# Altium footprint library Connector_IDC.PcbLib: 182 footprints (part 9 of 12)
Each footprint in its own frame and in the unit in brackets; x right, y up, seen from the top. Pads: shape width x height; smd on the part's side, far side on the other; paste and mask are expansions set on the pad; w line width, h text height; cw(c..) or ccw(c..) is an arc to the next point about the centre after c.
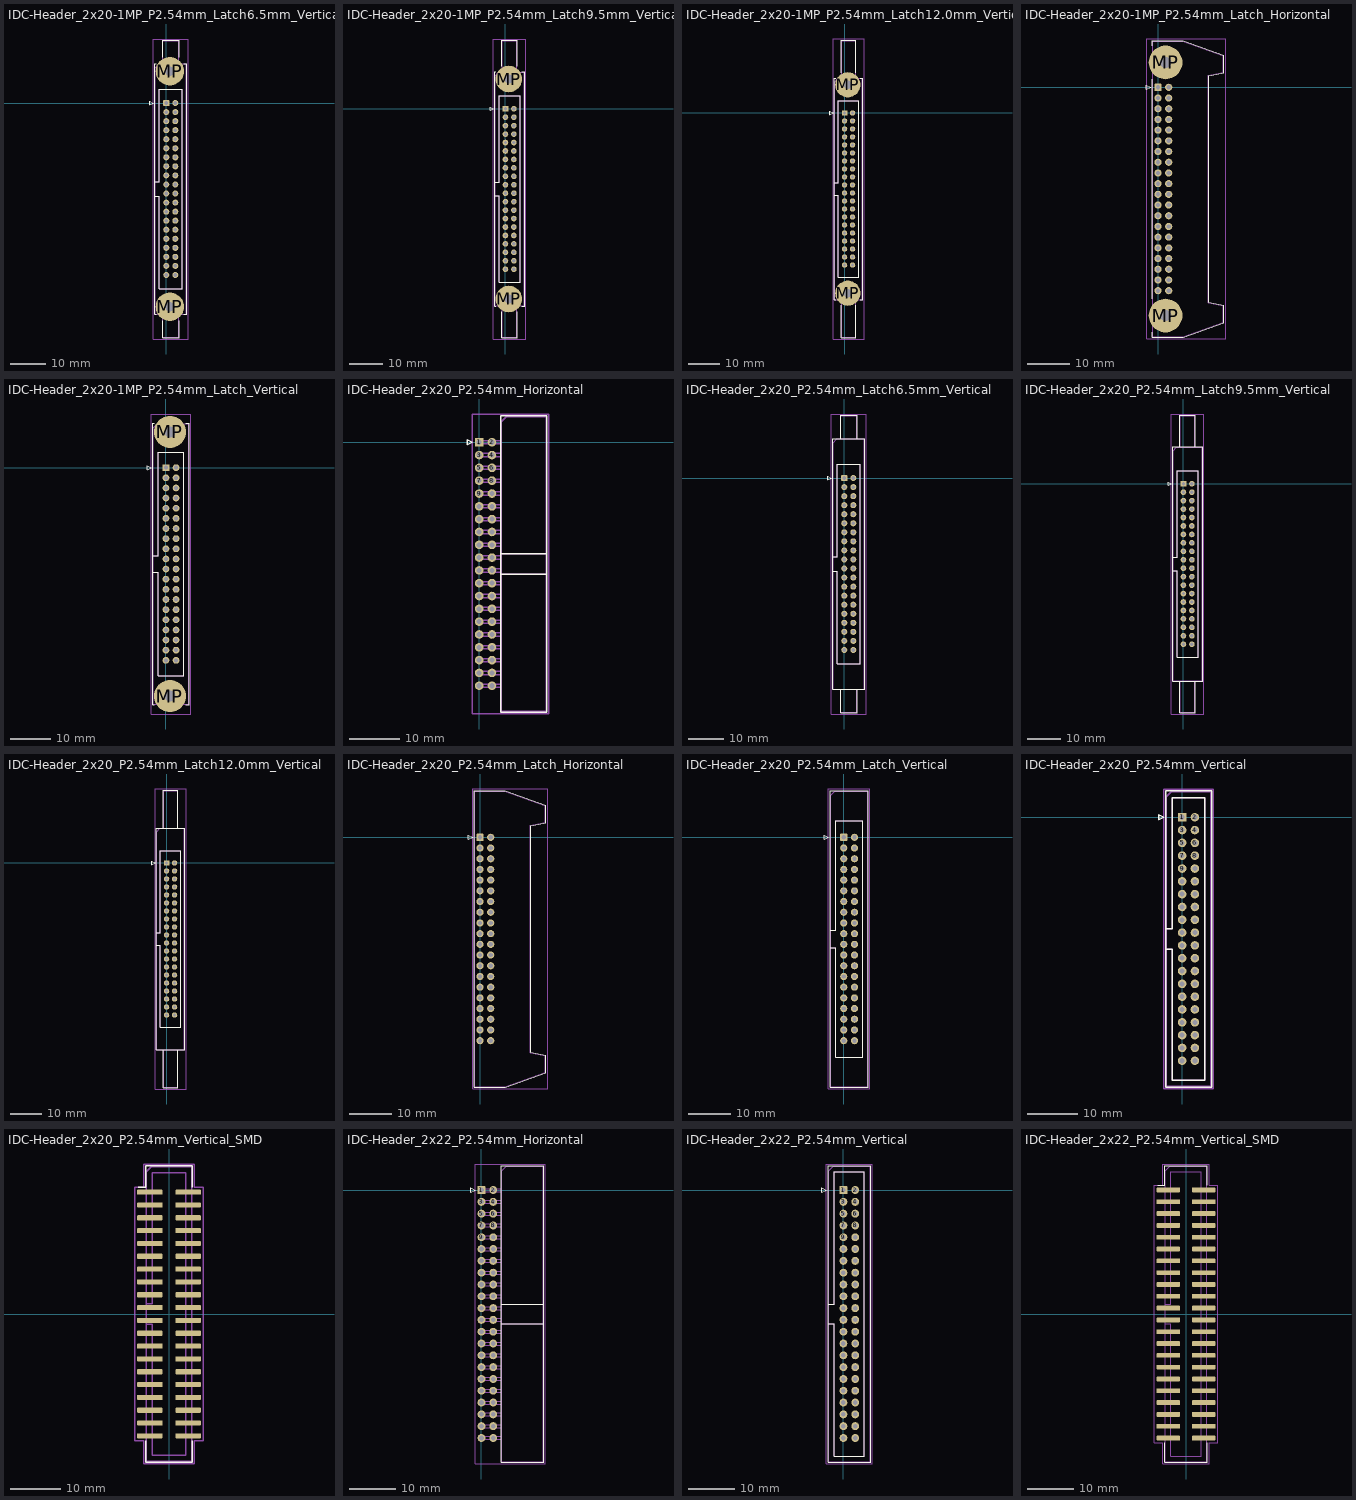
[diagram p8: the footprints below, top view; thin cyan lines are the x and y axes]

## IDC-Header_2x20-1MP_P2.54mm_Latch6.5mm_Vertical [mm]
pads (42):
  rrect15% 1.7x1.7 hole 1: 1(0,0)
  round 1.7 hole 1: 2(2.54,0) 3(0,-2.54) 4(2.54,-2.54) 5(0,-5.08) 6(2.54,-5.08) 7(0,-7.62) 8(2.54,-7.62) 9(0,-10.16) 10(2.54,-10.16) 11(0,-12.7) 12(2.54,-12.7) 13(0,-15.24) 14(2.54,-15.24) 15(0,-17.78) 16(2.54,-17.78) 17(0,-20.32) 18(2.54,-20.32) 19(0,-22.86) 20(2.54,-22.86) 21(0,-25.4) 22(2.54,-25.4) 23(0,-27.94) 24(2.54,-27.94) 25(0,-30.48) 26(2.54,-30.48) 27(0,-33.02) 28(2.54,-33.02) 29(0,-35.56) 30(2.54,-35.56) 31(0,-38.1) 32(2.54,-38.1) 33(0,-40.64) 34(2.54,-40.64) 35(0,-43.18) 36(2.54,-43.18) 37(0,-45.72) 38(2.54,-45.72) 39(0,-48.26) 40(2.54,-48.26)
  round 8 hole 2.69: MP(1.02,-57.2) MP(1.02,8.94)
F.SilkS:
  lines w0.254: -3.24,-26.18 -1.93,-26.18 -1.93,-52.18 4.47,-52.18 4.47,3.92 -1.93,3.92 -1.93,-22.08 -3.24,-22.08 ; -2.87,-59.34 -3.24,-59.34 -3.24,11.08 -2.87,11.08 ; -1.04,-61.09 -1.04,-65.84 3.58,-65.84 3.58,-61.09 ; -1.04,12.83 -1.04,17.58 3.58,17.58 3.58,12.83 ; 4.91,-59.34 5.78,-59.34 5.78,11.08 4.91,11.08 ; -4.63,-0.5 -3.63,0 -4.63,0.5 -4.63,-0.5
Top Assembly:
  lines w0.254: -3.13,-26.18 -1.93,-26.18 -1.93,-52.18 4.47,-52.18 4.47,3.92 -1.93,3.92 -1.93,-22.08 -3.13,-22.08 ; -0.93,-59.23 -0.93,-65.73 3.47,-65.73 3.47,-59.23 ; -0.93,10.97 -0.93,17.47 3.47,17.47 3.47,10.97 ; -3.13,-59.23 5.67,-59.23 5.67,10.97 -2.13,10.97 -3.13,9.97 -3.13,-59.23
  text "'.Designator'" at 2.11,-28.177 h1
Top Courtyard:
  lines w0.254: -3.63,-66.23 6.17,-66.23 6.17,17.97 -3.63,17.97 -3.63,-66.23
Top Designator:
  text ".Designator" at -6.848,-24.638 h1.52

## IDC-Header_2x20-1MP_P2.54mm_Latch9.5mm_Vertical [mm]
pads (42):
  rrect15% 1.7x1.7 hole 1: 1(0,0)
  round 1.7 hole 1: 2(2.54,0) 3(0,-2.54) 4(2.54,-2.54) 5(0,-5.08) 6(2.54,-5.08) 7(0,-7.62) 8(2.54,-7.62) 9(0,-10.16) 10(2.54,-10.16) 11(0,-12.7) 12(2.54,-12.7) 13(0,-15.24) 14(2.54,-15.24) 15(0,-17.78) 16(2.54,-17.78) 17(0,-20.32) 18(2.54,-20.32) 19(0,-22.86) 20(2.54,-22.86) 21(0,-25.4) 22(2.54,-25.4) 23(0,-27.94) 24(2.54,-27.94) 25(0,-30.48) 26(2.54,-30.48) 27(0,-33.02) 28(2.54,-33.02) 29(0,-35.56) 30(2.54,-35.56) 31(0,-38.1) 32(2.54,-38.1) 33(0,-40.64) 34(2.54,-40.64) 35(0,-43.18) 36(2.54,-43.18) 37(0,-45.72) 38(2.54,-45.72) 39(0,-48.26) 40(2.54,-48.26)
  round 8 hole 2.69: MP(1.02,-57.2) MP(1.02,8.94)
F.SilkS:
  lines w0.254: -3.24,-26.18 -1.93,-26.18 -1.93,-52.18 4.47,-52.18 4.47,3.92 -1.93,3.92 -1.93,-22.08 -3.24,-22.08 ; -2.87,-59.34 -3.24,-59.34 -3.24,11.08 -2.87,11.08 ; -1.04,-61.09 -1.04,-68.84 3.58,-68.84 3.58,-61.09 ; -1.04,12.83 -1.04,20.58 3.58,20.58 3.58,12.83 ; 4.91,-59.34 5.78,-59.34 5.78,11.08 4.91,11.08 ; -4.63,-0.5 -3.63,0 -4.63,0.5 -4.63,-0.5
Top Assembly:
  lines w0.254: -3.13,-26.18 -1.93,-26.18 -1.93,-52.18 4.47,-52.18 4.47,3.92 -1.93,3.92 -1.93,-22.08 -3.13,-22.08 ; -0.93,-59.23 -0.93,-68.73 3.47,-68.73 3.47,-59.23 ; -0.93,10.97 -0.93,20.47 3.47,20.47 3.47,10.97 ; -3.13,-59.23 5.67,-59.23 5.67,10.97 -2.13,10.97 -3.13,9.97 -3.13,-59.23
  text "'.Designator'" at 2.11,-28.177 h1
Top Courtyard:
  lines w0.254: -3.63,-69.23 6.17,-69.23 6.17,20.97 -3.63,20.97 -3.63,-69.23
Top Designator:
  text ".Designator" at -6.848,-24.638 h1.52

## IDC-Header_2x20-1MP_P2.54mm_Latch12.0mm_Vertical [mm]
pads (42):
  rrect15% 1.7x1.7 hole 1: 1(0,0)
  round 1.7 hole 1: 2(2.54,0) 3(0,-2.54) 4(2.54,-2.54) 5(0,-5.08) 6(2.54,-5.08) 7(0,-7.62) 8(2.54,-7.62) 9(0,-10.16) 10(2.54,-10.16) 11(0,-12.7) 12(2.54,-12.7) 13(0,-15.24) 14(2.54,-15.24) 15(0,-17.78) 16(2.54,-17.78) 17(0,-20.32) 18(2.54,-20.32) 19(0,-22.86) 20(2.54,-22.86) 21(0,-25.4) 22(2.54,-25.4) 23(0,-27.94) 24(2.54,-27.94) 25(0,-30.48) 26(2.54,-30.48) 27(0,-33.02) 28(2.54,-33.02) 29(0,-35.56) 30(2.54,-35.56) 31(0,-38.1) 32(2.54,-38.1) 33(0,-40.64) 34(2.54,-40.64) 35(0,-43.18) 36(2.54,-43.18) 37(0,-45.72) 38(2.54,-45.72) 39(0,-48.26) 40(2.54,-48.26)
  round 8 hole 2.69: MP(1.02,-57.2) MP(1.02,8.94)
F.SilkS:
  lines w0.254: -3.24,-26.18 -1.93,-26.18 -1.93,-52.18 4.47,-52.18 4.47,3.92 -1.93,3.92 -1.93,-22.08 -3.24,-22.08 ; -2.87,-59.34 -3.24,-59.34 -3.24,11.08 -2.87,11.08 ; -1.04,-61.09 -1.04,-71.34 3.58,-71.34 3.58,-61.09 ; -1.04,12.83 -1.04,23.08 3.58,23.08 3.58,12.83 ; 4.91,-59.34 5.78,-59.34 5.78,11.08 4.91,11.08 ; -4.63,-0.5 -3.63,0 -4.63,0.5 -4.63,-0.5
Top Assembly:
  lines w0.254: -3.13,-26.18 -1.93,-26.18 -1.93,-52.18 4.47,-52.18 4.47,3.92 -1.93,3.92 -1.93,-22.08 -3.13,-22.08 ; -0.93,-59.23 -0.93,-71.23 3.47,-71.23 3.47,-59.23 ; -0.93,10.97 -0.93,22.97 3.47,22.97 3.47,10.97 ; -3.13,-59.23 5.67,-59.23 5.67,10.97 -2.13,10.97 -3.13,9.97 -3.13,-59.23
  text "'.Designator'" at 2.11,-28.177 h1
Top Courtyard:
  lines w0.254: -3.63,-71.73 6.17,-71.73 6.17,23.47 -3.63,23.47 -3.63,-71.73
Top Designator:
  text ".Designator" at -6.848,-24.638 h1.52

## IDC-Header_2x20-1MP_P2.54mm_Latch_Horizontal [mm]
pads (42):
  rrect15% 1.7x1.7 hole 1: 1(0,0)
  round 1.7 hole 1: 2(2.54,0) 3(0,-2.54) 4(2.54,-2.54) 5(0,-5.08) 6(2.54,-5.08) 7(0,-7.62) 8(2.54,-7.62) 9(0,-10.16) 10(2.54,-10.16) 11(0,-12.7) 12(2.54,-12.7) 13(0,-15.24) 14(2.54,-15.24) 15(0,-17.78) 16(2.54,-17.78) 17(0,-20.32) 18(2.54,-20.32) 19(0,-22.86) 20(2.54,-22.86) 21(0,-25.4) 22(2.54,-25.4) 23(0,-27.94) 24(2.54,-27.94) 25(0,-30.48) 26(2.54,-30.48) 27(0,-33.02) 28(2.54,-33.02) 29(0,-35.56) 30(2.54,-35.56) 31(0,-38.1) 32(2.54,-38.1) 33(0,-40.64) 34(2.54,-40.64) 35(0,-43.18) 36(2.54,-43.18) 37(0,-45.72) 38(2.54,-45.72) 39(0,-48.26) 40(2.54,-48.26)
  round 8 hole 2.69: MP(1.8,-54.165) MP(1.8,5.905)
F.SilkS:
  lines w0.254: -1.35,-58.165 -1.35,-59.34 5.98,-59.34 15.64,-55.87 15.64,-51.68 12.08,-51.05 12.08,2.79 15.64,3.42 15.64,7.61 5.98,11.08 -1.35,11.08 -1.35,9.905 ; -1.35,-50.165 -1.35,1.905 ; -2.74,-0.5 -1.74,0 -2.74,0.5 -2.74,-0.5
Top Assembly:
  lines w0.254: -1.24,-59.23 5.87,-59.23 15.53,-55.76 15.53,-51.79 11.97,-51.16 11.97,2.9 15.53,3.53 15.53,7.5 5.87,10.97 -1.24,10.97 -1.24,-59.23
  text "'.Designator'" at 7.985,-28.177 h1
Top Courtyard:
  lines w0.254: -2.7,-59.73 16.03,-59.73 16.03,11.47 -2.7,11.47 -2.7,-59.73
Top Designator:
  text ".Designator" at -0.973,-24.638 h1.52

## IDC-Header_2x20-1MP_P2.54mm_Latch_Vertical [mm]
pads (42):
  rrect15% 1.7x1.7 hole 1: 1(0,0)
  round 1.7 hole 1: 2(2.54,0) 3(0,-2.54) 4(2.54,-2.54) 5(0,-5.08) 6(2.54,-5.08) 7(0,-7.62) 8(2.54,-7.62) 9(0,-10.16) 10(2.54,-10.16) 11(0,-12.7) 12(2.54,-12.7) 13(0,-15.24) 14(2.54,-15.24) 15(0,-17.78) 16(2.54,-17.78) 17(0,-20.32) 18(2.54,-20.32) 19(0,-22.86) 20(2.54,-22.86) 21(0,-25.4) 22(2.54,-25.4) 23(0,-27.94) 24(2.54,-27.94) 25(0,-30.48) 26(2.54,-30.48) 27(0,-33.02) 28(2.54,-33.02) 29(0,-35.56) 30(2.54,-35.56) 31(0,-38.1) 32(2.54,-38.1) 33(0,-40.64) 34(2.54,-40.64) 35(0,-43.18) 36(2.54,-43.18) 37(0,-45.72) 38(2.54,-45.72) 39(0,-48.26) 40(2.54,-48.26)
  round 8 hole 2.69: MP(1.02,-57.2) MP(1.02,8.94)
F.SilkS:
  lines w0.254: -3.24,-26.18 -1.93,-26.18 -1.93,-52.18 4.47,-52.18 4.47,3.92 -1.93,3.92 -1.93,-22.08 -3.24,-22.08 ; -2.87,-59.34 -3.24,-59.34 -3.24,11.08 -2.87,11.08 ; 4.91,-59.34 5.78,-59.34 5.78,11.08 4.91,11.08 ; -4.63,-0.5 -3.63,0 -4.63,0.5 -4.63,-0.5
Top Assembly:
  lines w0.254: -3.13,-26.18 -1.93,-26.18 -1.93,-52.18 4.47,-52.18 4.47,3.92 -1.93,3.92 -1.93,-22.08 -3.13,-22.08 ; -3.13,-59.23 5.67,-59.23 5.67,10.97 -2.13,10.97 -3.13,9.97 -3.13,-59.23
  text "'.Designator'" at 2.11,-28.177 h1
Top Courtyard:
  lines w0.254: -3.63,-61.7 6.17,-61.7 6.17,13.44 -3.63,13.44 -3.63,-61.7
Top Designator:
  text ".Designator" at -6.848,-24.638 h1.52

## IDC-Header_2x20_P2.54mm_Horizontal [mm]
pads (40):
  rrect15% 1.7x1.7 hole 1: 1(0,0)
  round 1.7 hole 1: 2(2.54,0) 3(0,-2.54) 4(2.54,-2.54) 5(0,-5.08) 6(2.54,-5.08) 7(0,-7.62) 8(2.54,-7.62) 9(0,-10.16) 10(2.54,-10.16) 11(0,-12.7) 12(2.54,-12.7) 13(0,-15.24) 14(2.54,-15.24) 15(0,-17.78) 16(2.54,-17.78) 17(0,-20.32) 18(2.54,-20.32) 19(0,-22.86) 20(2.54,-22.86) 21(0,-25.4) 22(2.54,-25.4) 23(0,-27.94) 24(2.54,-27.94) 25(0,-30.48) 26(2.54,-30.48) 27(0,-33.02) 28(2.54,-33.02) 29(0,-35.56) 30(2.54,-35.56) 31(0,-38.1) 32(2.54,-38.1) 33(0,-40.64) 34(2.54,-40.64) 35(0,-43.18) 36(2.54,-43.18) 37(0,-45.72) 38(2.54,-45.72) 39(0,-48.26) 40(2.54,-48.26)
F.SilkS:
  lines w0.254: 4.27,-26.18 13.39,-26.18 ; 4.27,-22.08 13.39,-22.08 ; -2.35,-0.5 -1.35,0 -2.35,0.5 -2.35,-0.5 ; 4.27,-53.47 13.39,-53.47 13.39,5.21 4.27,5.21 4.27,-53.47
Top Assembly:
  lines w0.254: 4.38,-48.58 -0.32,-48.58 -0.32,-47.94 4.38,-47.94 ; 4.38,-46.04 -0.32,-46.04 -0.32,-45.4 4.38,-45.4 ; 4.38,-43.5 -0.32,-43.5 -0.32,-42.86 4.38,-42.86 ; 4.38,-40.96 -0.32,-40.96 -0.32,-40.32 4.38,-40.32 ; 4.38,-38.42 -0.32,-38.42 -0.32,-37.78 4.38,-37.78 ; 4.38,-35.88 -0.32,-35.88 -0.32,-35.24 4.38,-35.24 ; 4.38,-33.34 -0.32,-33.34 -0.32,-32.7 4.38,-32.7 ; 4.38,-30.8 -0.32,-30.8 -0.32,-30.16 4.38,-30.16 ; 4.38,-28.26 -0.32,-28.26 -0.32,-27.62 4.38,-27.62 ; 4.38,-26.18 13.28,-26.18 ; 4.38,-25.72 -0.32,-25.72 -0.32,-25.08 4.38,-25.08 ; 4.38,-23.18 -0.32,-23.18 -0.32,-22.54 4.38,-22.54 ; 4.38,-22.08 13.28,-22.08 ; 4.38,-20.64 -0.32,-20.64 -0.32,-20 4.38,-20 ; 4.38,-18.1 -0.32,-18.1 -0.32,-17.46 4.38,-17.46 ; 4.38,-15.56 -0.32,-15.56 -0.32,-14.92 4.38,-14.92 ; 4.38,-13.02 -0.32,-13.02 -0.32,-12.38 4.38,-12.38 ; 4.38,-10.48 -0.32,-10.48 -0.32,-9.84 4.38,-9.84 ; 4.38,-7.94 -0.32,-7.94 -0.32,-7.3 4.38,-7.3 ; 4.38,-5.4 -0.32,-5.4 -0.32,-4.76 4.38,-4.76 ; 4.38,-2.86 -0.32,-2.86 -0.32,-2.22 4.38,-2.22 ; 4.38,-0.32 -0.32,-0.32 -0.32,0.32 4.38,0.32 ; 4.38,-53.36 13.28,-53.36 13.28,5.1 5.38,5.1 4.38,4.1 4.38,-53.36
  text "'.Designator'" at 9.67,-28.177 h1
Top Courtyard:
  lines w0.254: -1.35,-53.86 13.78,-53.86 13.78,5.6 -1.35,5.6 -1.35,-53.86
Top Designator:
  text ".Designator" at -1.903,-24.638 h1.52

## IDC-Header_2x20_P2.54mm_Latch6.5mm_Vertical [mm]
pads (40):
  rrect15% 1.7x1.7 hole 1: 1(0,0)
  round 1.7 hole 1: 2(2.54,0) 3(0,-2.54) 4(2.54,-2.54) 5(0,-5.08) 6(2.54,-5.08) 7(0,-7.62) 8(2.54,-7.62) 9(0,-10.16) 10(2.54,-10.16) 11(0,-12.7) 12(2.54,-12.7) 13(0,-15.24) 14(2.54,-15.24) 15(0,-17.78) 16(2.54,-17.78) 17(0,-20.32) 18(2.54,-20.32) 19(0,-22.86) 20(2.54,-22.86) 21(0,-25.4) 22(2.54,-25.4) 23(0,-27.94) 24(2.54,-27.94) 25(0,-30.48) 26(2.54,-30.48) 27(0,-33.02) 28(2.54,-33.02) 29(0,-35.56) 30(2.54,-35.56) 31(0,-38.1) 32(2.54,-38.1) 33(0,-40.64) 34(2.54,-40.64) 35(0,-43.18) 36(2.54,-43.18) 37(0,-45.72) 38(2.54,-45.72) 39(0,-48.26) 40(2.54,-48.26)
F.SilkS:
  lines w0.254: -3.24,-26.18 -1.93,-26.18 -1.93,-52.18 4.47,-52.18 4.47,3.92 -1.93,3.92 -1.93,-22.08 -3.24,-22.08 ; -1.04,-59.34 -1.04,-65.84 3.58,-65.84 3.58,-59.34 ; -1.04,11.08 -1.04,17.58 3.58,17.58 3.58,11.08 ; -4.63,-0.5 -3.63,0 -4.63,0.5 -4.63,-0.5 ; -3.24,-59.34 5.78,-59.34 5.78,11.08 -3.24,11.08 -3.24,-59.34
Top Assembly:
  lines w0.254: -3.13,-26.18 -1.93,-26.18 -1.93,-52.18 4.47,-52.18 4.47,3.92 -1.93,3.92 -1.93,-22.08 -3.13,-22.08 ; -0.93,-59.23 -0.93,-65.73 3.47,-65.73 3.47,-59.23 ; -0.93,10.97 -0.93,17.47 3.47,17.47 3.47,10.97 ; -3.13,-59.23 5.67,-59.23 5.67,10.97 -2.13,10.97 -3.13,9.97 -3.13,-59.23
  text "'.Designator'" at 2.11,-28.177 h1
Top Courtyard:
  lines w0.254: -3.63,-66.23 6.17,-66.23 6.17,17.97 -3.63,17.97 -3.63,-66.23
Top Designator:
  text ".Designator" at -6.848,-24.638 h1.52

## IDC-Header_2x20_P2.54mm_Latch9.5mm_Vertical [mm]
pads (40):
  rrect15% 1.7x1.7 hole 1: 1(0,0)
  round 1.7 hole 1: 2(2.54,0) 3(0,-2.54) 4(2.54,-2.54) 5(0,-5.08) 6(2.54,-5.08) 7(0,-7.62) 8(2.54,-7.62) 9(0,-10.16) 10(2.54,-10.16) 11(0,-12.7) 12(2.54,-12.7) 13(0,-15.24) 14(2.54,-15.24) 15(0,-17.78) 16(2.54,-17.78) 17(0,-20.32) 18(2.54,-20.32) 19(0,-22.86) 20(2.54,-22.86) 21(0,-25.4) 22(2.54,-25.4) 23(0,-27.94) 24(2.54,-27.94) 25(0,-30.48) 26(2.54,-30.48) 27(0,-33.02) 28(2.54,-33.02) 29(0,-35.56) 30(2.54,-35.56) 31(0,-38.1) 32(2.54,-38.1) 33(0,-40.64) 34(2.54,-40.64) 35(0,-43.18) 36(2.54,-43.18) 37(0,-45.72) 38(2.54,-45.72) 39(0,-48.26) 40(2.54,-48.26)
F.SilkS:
  lines w0.254: -3.24,-26.18 -1.93,-26.18 -1.93,-52.18 4.47,-52.18 4.47,3.92 -1.93,3.92 -1.93,-22.08 -3.24,-22.08 ; -1.04,-59.34 -1.04,-68.84 3.58,-68.84 3.58,-59.34 ; -1.04,11.08 -1.04,20.58 3.58,20.58 3.58,11.08 ; -4.63,-0.5 -3.63,0 -4.63,0.5 -4.63,-0.5 ; -3.24,-59.34 5.78,-59.34 5.78,11.08 -3.24,11.08 -3.24,-59.34
Top Assembly:
  lines w0.254: -3.13,-26.18 -1.93,-26.18 -1.93,-52.18 4.47,-52.18 4.47,3.92 -1.93,3.92 -1.93,-22.08 -3.13,-22.08 ; -0.93,-59.23 -0.93,-68.73 3.47,-68.73 3.47,-59.23 ; -0.93,10.97 -0.93,20.47 3.47,20.47 3.47,10.97 ; -3.13,-59.23 5.67,-59.23 5.67,10.97 -2.13,10.97 -3.13,9.97 -3.13,-59.23
  text "'.Designator'" at 2.11,-28.177 h1
Top Courtyard:
  lines w0.254: -3.63,-69.23 6.17,-69.23 6.17,20.97 -3.63,20.97 -3.63,-69.23
Top Designator:
  text ".Designator" at -6.848,-24.638 h1.52

## IDC-Header_2x20_P2.54mm_Latch12.0mm_Vertical [mm]
pads (40):
  rrect15% 1.7x1.7 hole 1: 1(0,0)
  round 1.7 hole 1: 2(2.54,0) 3(0,-2.54) 4(2.54,-2.54) 5(0,-5.08) 6(2.54,-5.08) 7(0,-7.62) 8(2.54,-7.62) 9(0,-10.16) 10(2.54,-10.16) 11(0,-12.7) 12(2.54,-12.7) 13(0,-15.24) 14(2.54,-15.24) 15(0,-17.78) 16(2.54,-17.78) 17(0,-20.32) 18(2.54,-20.32) 19(0,-22.86) 20(2.54,-22.86) 21(0,-25.4) 22(2.54,-25.4) 23(0,-27.94) 24(2.54,-27.94) 25(0,-30.48) 26(2.54,-30.48) 27(0,-33.02) 28(2.54,-33.02) 29(0,-35.56) 30(2.54,-35.56) 31(0,-38.1) 32(2.54,-38.1) 33(0,-40.64) 34(2.54,-40.64) 35(0,-43.18) 36(2.54,-43.18) 37(0,-45.72) 38(2.54,-45.72) 39(0,-48.26) 40(2.54,-48.26)
F.SilkS:
  lines w0.254: -3.24,-26.18 -1.93,-26.18 -1.93,-52.18 4.47,-52.18 4.47,3.92 -1.93,3.92 -1.93,-22.08 -3.24,-22.08 ; -1.04,-59.34 -1.04,-71.34 3.58,-71.34 3.58,-59.34 ; -1.04,11.08 -1.04,23.08 3.58,23.08 3.58,11.08 ; -4.63,-0.5 -3.63,0 -4.63,0.5 -4.63,-0.5 ; -3.24,-59.34 5.78,-59.34 5.78,11.08 -3.24,11.08 -3.24,-59.34
Top Assembly:
  lines w0.254: -3.13,-26.18 -1.93,-26.18 -1.93,-52.18 4.47,-52.18 4.47,3.92 -1.93,3.92 -1.93,-22.08 -3.13,-22.08 ; -0.93,-59.23 -0.93,-71.23 3.47,-71.23 3.47,-59.23 ; -0.93,10.97 -0.93,22.97 3.47,22.97 3.47,10.97 ; -3.13,-59.23 5.67,-59.23 5.67,10.97 -2.13,10.97 -3.13,9.97 -3.13,-59.23
  text "'.Designator'" at 2.11,-28.177 h1
Top Courtyard:
  lines w0.254: -3.63,-71.73 6.17,-71.73 6.17,23.47 -3.63,23.47 -3.63,-71.73
Top Designator:
  text ".Designator" at -6.848,-24.638 h1.52

## IDC-Header_2x20_P2.54mm_Latch_Horizontal [mm]
pads (40):
  rrect15% 1.7x1.7 hole 1: 1(0,0)
  round 1.7 hole 1: 2(2.54,0) 3(0,-2.54) 4(2.54,-2.54) 5(0,-5.08) 6(2.54,-5.08) 7(0,-7.62) 8(2.54,-7.62) 9(0,-10.16) 10(2.54,-10.16) 11(0,-12.7) 12(2.54,-12.7) 13(0,-15.24) 14(2.54,-15.24) 15(0,-17.78) 16(2.54,-17.78) 17(0,-20.32) 18(2.54,-20.32) 19(0,-22.86) 20(2.54,-22.86) 21(0,-25.4) 22(2.54,-25.4) 23(0,-27.94) 24(2.54,-27.94) 25(0,-30.48) 26(2.54,-30.48) 27(0,-33.02) 28(2.54,-33.02) 29(0,-35.56) 30(2.54,-35.56) 31(0,-38.1) 32(2.54,-38.1) 33(0,-40.64) 34(2.54,-40.64) 35(0,-43.18) 36(2.54,-43.18) 37(0,-45.72) 38(2.54,-45.72) 39(0,-48.26) 40(2.54,-48.26)
F.SilkS:
  lines w0.254: -2.74,-0.5 -1.74,0 -2.74,0.5 -2.74,-0.5 ; -1.35,-59.34 5.98,-59.34 15.64,-55.87 15.64,-51.68 12.08,-51.05 12.08,2.79 15.64,3.42 15.64,7.61 5.98,11.08 -1.35,11.08 -1.35,-59.34
Top Assembly:
  lines w0.254: -1.24,-59.23 5.87,-59.23 15.53,-55.76 15.53,-51.79 11.97,-51.16 11.97,2.9 15.53,3.53 15.53,7.5 5.87,10.97 -1.24,10.97 -1.24,-59.23
  text "'.Designator'" at 7.985,-28.177 h1
Top Courtyard:
  lines w0.254: -1.74,-59.73 16.03,-59.73 16.03,11.47 -1.74,11.47 -1.74,-59.73
Top Designator:
  text ".Designator" at -0.973,-24.638 h1.52

## IDC-Header_2x20_P2.54mm_Latch_Vertical [mm]
pads (40):
  rrect15% 1.7x1.7 hole 1: 1(0,0)
  round 1.7 hole 1: 2(2.54,0) 3(0,-2.54) 4(2.54,-2.54) 5(0,-5.08) 6(2.54,-5.08) 7(0,-7.62) 8(2.54,-7.62) 9(0,-10.16) 10(2.54,-10.16) 11(0,-12.7) 12(2.54,-12.7) 13(0,-15.24) 14(2.54,-15.24) 15(0,-17.78) 16(2.54,-17.78) 17(0,-20.32) 18(2.54,-20.32) 19(0,-22.86) 20(2.54,-22.86) 21(0,-25.4) 22(2.54,-25.4) 23(0,-27.94) 24(2.54,-27.94) 25(0,-30.48) 26(2.54,-30.48) 27(0,-33.02) 28(2.54,-33.02) 29(0,-35.56) 30(2.54,-35.56) 31(0,-38.1) 32(2.54,-38.1) 33(0,-40.64) 34(2.54,-40.64) 35(0,-43.18) 36(2.54,-43.18) 37(0,-45.72) 38(2.54,-45.72) 39(0,-48.26) 40(2.54,-48.26)
F.SilkS:
  lines w0.254: -3.24,-26.18 -1.93,-26.18 -1.93,-52.18 4.47,-52.18 4.47,3.92 -1.93,3.92 -1.93,-22.08 -3.24,-22.08 ; -4.63,-0.5 -3.63,0 -4.63,0.5 -4.63,-0.5 ; -3.24,-59.34 5.78,-59.34 5.78,11.08 -3.24,11.08 -3.24,-59.34
Top Assembly:
  lines w0.254: -3.13,-26.18 -1.93,-26.18 -1.93,-52.18 4.47,-52.18 4.47,3.92 -1.93,3.92 -1.93,-22.08 -3.13,-22.08 ; -3.13,-59.23 5.67,-59.23 5.67,10.97 -2.13,10.97 -3.13,9.97 -3.13,-59.23
  text "'.Designator'" at 2.11,-28.177 h1
Top Courtyard:
  lines w0.254: -3.63,-59.73 6.17,-59.73 6.17,11.47 -3.63,11.47 -3.63,-59.73
Top Designator:
  text ".Designator" at -6.848,-24.638 h1.52

## IDC-Header_2x20_P2.54mm_Vertical [mm]
pads (40):
  rrect15% 1.7x1.7 hole 1: 1(0,0)
  round 1.7 hole 1: 2(2.54,0) 3(0,-2.54) 4(2.54,-2.54) 5(0,-5.08) 6(2.54,-5.08) 7(0,-7.62) 8(2.54,-7.62) 9(0,-10.16) 10(2.54,-10.16) 11(0,-12.7) 12(2.54,-12.7) 13(0,-15.24) 14(2.54,-15.24) 15(0,-17.78) 16(2.54,-17.78) 17(0,-20.32) 18(2.54,-20.32) 19(0,-22.86) 20(2.54,-22.86) 21(0,-25.4) 22(2.54,-25.4) 23(0,-27.94) 24(2.54,-27.94) 25(0,-30.48) 26(2.54,-30.48) 27(0,-33.02) 28(2.54,-33.02) 29(0,-35.56) 30(2.54,-35.56) 31(0,-38.1) 32(2.54,-38.1) 33(0,-40.64) 34(2.54,-40.64) 35(0,-43.18) 36(2.54,-43.18) 37(0,-45.72) 38(2.54,-45.72) 39(0,-48.26) 40(2.54,-48.26)
F.SilkS:
  lines w0.254: -3.29,-26.18 -1.98,-26.18 -1.98,-52.17 4.52,-52.17 4.52,3.91 -1.98,3.91 -1.98,-22.08 -3.29,-22.08 ; -4.68,-0.5 -3.68,0 -4.68,0.5 -4.68,-0.5 ; -3.29,-53.47 5.83,-53.47 5.83,5.21 -3.29,5.21 -3.29,-53.47
Top Assembly:
  lines w0.254: -3.18,-26.18 -1.98,-26.18 -1.98,-52.17 4.52,-52.17 4.52,3.91 -1.98,3.91 -1.98,-22.08 -3.18,-22.08 ; -3.18,-53.36 5.72,-53.36 5.72,5.1 -2.18,5.1 -3.18,4.1 -3.18,-53.36
  text "'.Designator'" at 2.11,-28.177 h1
Top Courtyard:
  lines w0.254: -3.68,-53.86 6.22,-53.86 6.22,5.6 -3.68,5.6 -3.68,-53.86
Top Designator:
  text ".Designator" at -6.848,-24.638 h1.52

## IDC-Header_2x20_P2.54mm_Vertical_SMD [mm]
pads (40):
  rrect25% 5x1.02 smd: 1(-3.8,24.13) 2(3.8,24.13) 3(-3.8,21.59) 4(3.8,21.59) 5(-3.8,19.05) 6(3.8,19.05) 7(-3.8,16.51) 8(3.8,16.51) 9(-3.8,13.97) 10(3.8,13.97) 11(-3.8,11.43) 12(3.8,11.43) 13(-3.8,8.89) 14(3.8,8.89) 15(-3.8,6.35) 16(3.8,6.35) 17(-3.8,3.81) 18(3.8,3.81) 19(-3.8,1.27) 20(3.8,1.27) 21(-3.8,-1.27) 22(3.8,-1.27) 23(-3.8,-3.81) 24(3.8,-3.81) 25(-3.8,-6.35) 26(3.8,-6.35) 27(-3.8,-8.89) 28(3.8,-8.89) 29(-3.8,-11.43) 30(3.8,-11.43) 31(-3.8,-13.97) 32(3.8,-13.97) 33(-3.8,-16.51) 34(3.8,-16.51) 35(-3.8,-19.05) 36(3.8,-19.05) 37(-3.8,-21.59) 38(3.8,-21.59) 39(-3.8,-24.13) 40(3.8,-24.13)
F.SilkS:
  lines w0.254: -6.085,25.14 -4.585,25.14 -4.585,29.32 4.585,29.32 4.585,25.14 ; -4.585,-25.14 -4.585,-29.32 4.585,-29.32 4.585,-25.14
Top Assembly:
  lines w0.254: -4.475,-2.05 -3.275,-2.05 -3.275,-28.01 3.275,-28.01 3.275,28.01 -3.275,28.01 -3.275,2.05 -4.475,2.05 ; -4.475,-29.21 4.475,-29.21 4.475,29.21 -3.475,29.21 -4.475,28.21 -4.475,-29.21
  text "'.Designator'" at 0.84,-4.047 h1
Top Courtyard:
  lines w0.254: -6.8,-25.14 -4.98,-25.14 -4.98,-29.71 4.98,-29.71 4.98,-25.14 6.8,-25.14 6.8,25.14 4.98,25.14 4.98,29.71 -4.98,29.71 -4.98,25.14 -6.8,25.14 -6.8,-25.14
Top Designator:
  text ".Designator" at -7.618,-0.508 h1.52

## IDC-Header_2x22_P2.54mm_Horizontal [mm]
pads (44):
  rrect15% 1.7x1.7 hole 1: 1(0,0)
  round 1.7 hole 1: 2(2.54,0) 3(0,-2.54) 4(2.54,-2.54) 5(0,-5.08) 6(2.54,-5.08) 7(0,-7.62) 8(2.54,-7.62) 9(0,-10.16) 10(2.54,-10.16) 11(0,-12.7) 12(2.54,-12.7) 13(0,-15.24) 14(2.54,-15.24) 15(0,-17.78) 16(2.54,-17.78) 17(0,-20.32) 18(2.54,-20.32) 19(0,-22.86) 20(2.54,-22.86) 21(0,-25.4) 22(2.54,-25.4) 23(0,-27.94) 24(2.54,-27.94) 25(0,-30.48) 26(2.54,-30.48) 27(0,-33.02) 28(2.54,-33.02) 29(0,-35.56) 30(2.54,-35.56) 31(0,-38.1) 32(2.54,-38.1) 33(0,-40.64) 34(2.54,-40.64) 35(0,-43.18) 36(2.54,-43.18) 37(0,-45.72) 38(2.54,-45.72) 39(0,-48.26) 40(2.54,-48.26) 41(0,-50.8) 42(2.54,-50.8) 43(0,-53.34) 44(2.54,-53.34)
F.SilkS:
  lines w0.254: 4.27,-28.72 13.39,-28.72 ; 4.27,-24.62 13.39,-24.62 ; -2.35,-0.5 -1.35,0 -2.35,0.5 -2.35,-0.5 ; 4.27,-58.55 13.39,-58.55 13.39,5.21 4.27,5.21 4.27,-58.55
Top Assembly:
  lines w0.254: 4.38,-53.66 -0.32,-53.66 -0.32,-53.02 4.38,-53.02 ; 4.38,-51.12 -0.32,-51.12 -0.32,-50.48 4.38,-50.48 ; 4.38,-48.58 -0.32,-48.58 -0.32,-47.94 4.38,-47.94 ; 4.38,-46.04 -0.32,-46.04 -0.32,-45.4 4.38,-45.4 ; 4.38,-43.5 -0.32,-43.5 -0.32,-42.86 4.38,-42.86 ; 4.38,-40.96 -0.32,-40.96 -0.32,-40.32 4.38,-40.32 ; 4.38,-38.42 -0.32,-38.42 -0.32,-37.78 4.38,-37.78 ; 4.38,-35.88 -0.32,-35.88 -0.32,-35.24 4.38,-35.24 ; 4.38,-33.34 -0.32,-33.34 -0.32,-32.7 4.38,-32.7 ; 4.38,-30.8 -0.32,-30.8 -0.32,-30.16 4.38,-30.16 ; 4.38,-28.72 13.28,-28.72 ; 4.38,-28.26 -0.32,-28.26 -0.32,-27.62 4.38,-27.62 ; 4.38,-25.72 -0.32,-25.72 -0.32,-25.08 4.38,-25.08 ; 4.38,-24.62 13.28,-24.62 ; 4.38,-23.18 -0.32,-23.18 -0.32,-22.54 4.38,-22.54 ; 4.38,-20.64 -0.32,-20.64 -0.32,-20 4.38,-20 ; 4.38,-18.1 -0.32,-18.1 -0.32,-17.46 4.38,-17.46 ; 4.38,-15.56 -0.32,-15.56 -0.32,-14.92 4.38,-14.92 ; 4.38,-13.02 -0.32,-13.02 -0.32,-12.38 4.38,-12.38 ; 4.38,-10.48 -0.32,-10.48 -0.32,-9.84 4.38,-9.84 ; 4.38,-7.94 -0.32,-7.94 -0.32,-7.3 4.38,-7.3 ; 4.38,-5.4 -0.32,-5.4 -0.32,-4.76 4.38,-4.76 ; 4.38,-2.86 -0.32,-2.86 -0.32,-2.22 4.38,-2.22 ; 4.38,-0.32 -0.32,-0.32 -0.32,0.32 4.38,0.32 ; 4.38,-58.44 13.28,-58.44 13.28,5.1 5.38,5.1 4.38,4.1 4.38,-58.44
  text "'.Designator'" at 9.67,-30.717 h1
Top Courtyard:
  lines w0.254: -1.35,-58.94 13.78,-58.94 13.78,5.6 -1.35,5.6 -1.35,-58.94
Top Designator:
  text ".Designator" at -1.903,-27.178 h1.52

## IDC-Header_2x22_P2.54mm_Vertical [mm]
pads (44):
  rrect15% 1.7x1.7 hole 1: 1(0,0)
  round 1.7 hole 1: 2(2.54,0) 3(0,-2.54) 4(2.54,-2.54) 5(0,-5.08) 6(2.54,-5.08) 7(0,-7.62) 8(2.54,-7.62) 9(0,-10.16) 10(2.54,-10.16) 11(0,-12.7) 12(2.54,-12.7) 13(0,-15.24) 14(2.54,-15.24) 15(0,-17.78) 16(2.54,-17.78) 17(0,-20.32) 18(2.54,-20.32) 19(0,-22.86) 20(2.54,-22.86) 21(0,-25.4) 22(2.54,-25.4) 23(0,-27.94) 24(2.54,-27.94) 25(0,-30.48) 26(2.54,-30.48) 27(0,-33.02) 28(2.54,-33.02) 29(0,-35.56) 30(2.54,-35.56) 31(0,-38.1) 32(2.54,-38.1) 33(0,-40.64) 34(2.54,-40.64) 35(0,-43.18) 36(2.54,-43.18) 37(0,-45.72) 38(2.54,-45.72) 39(0,-48.26) 40(2.54,-48.26) 41(0,-50.8) 42(2.54,-50.8) 43(0,-53.34) 44(2.54,-53.34)
F.SilkS:
  lines w0.254: -3.29,-28.72 -1.98,-28.72 -1.98,-57.25 4.52,-57.25 4.52,3.91 -1.98,3.91 -1.98,-24.62 -3.29,-24.62 ; -4.68,-0.5 -3.68,0 -4.68,0.5 -4.68,-0.5 ; -3.29,-58.55 5.83,-58.55 5.83,5.21 -3.29,5.21 -3.29,-58.55
Top Assembly:
  lines w0.254: -3.18,-28.72 -1.98,-28.72 -1.98,-57.25 4.52,-57.25 4.52,3.91 -1.98,3.91 -1.98,-24.62 -3.18,-24.62 ; -3.18,-58.44 5.72,-58.44 5.72,5.1 -2.18,5.1 -3.18,4.1 -3.18,-58.44
  text "'.Designator'" at 2.11,-30.717 h1
Top Courtyard:
  lines w0.254: -3.68,-58.94 6.22,-58.94 6.22,5.6 -3.68,5.6 -3.68,-58.94
Top Designator:
  text ".Designator" at -6.848,-27.178 h1.52

## IDC-Header_2x22_P2.54mm_Vertical_SMD [mm]
pads (44):
  rrect25% 5x1.02 smd: 1(-3.8,26.67) 2(3.8,26.67) 3(-3.8,24.13) 4(3.8,24.13) 5(-3.8,21.59) 6(3.8,21.59) 7(-3.8,19.05) 8(3.8,19.05) 9(-3.8,16.51) 10(3.8,16.51) 11(-3.8,13.97) 12(3.8,13.97) 13(-3.8,11.43) 14(3.8,11.43) 15(-3.8,8.89) 16(3.8,8.89) 17(-3.8,6.35) 18(3.8,6.35) 19(-3.8,3.81) 20(3.8,3.81) 21(-3.8,1.27) 22(3.8,1.27) 23(-3.8,-1.27) 24(3.8,-1.27) 25(-3.8,-3.81) 26(3.8,-3.81) 27(-3.8,-6.35) 28(3.8,-6.35) 29(-3.8,-8.89) 30(3.8,-8.89) 31(-3.8,-11.43) 32(3.8,-11.43) 33(-3.8,-13.97) 34(3.8,-13.97) 35(-3.8,-16.51) 36(3.8,-16.51) 37(-3.8,-19.05) 38(3.8,-19.05) 39(-3.8,-21.59) 40(3.8,-21.59) 41(-3.8,-24.13) 42(3.8,-24.13) 43(-3.8,-26.67) 44(3.8,-26.67)
F.SilkS:
  lines w0.254: -6.085,27.68 -4.585,27.68 -4.585,31.86 4.585,31.86 4.585,27.68 ; -4.585,-27.68 -4.585,-31.86 4.585,-31.86 4.585,-27.68
Top Assembly:
  lines w0.254: -4.475,-2.05 -3.275,-2.05 -3.275,-30.55 3.275,-30.55 3.275,30.55 -3.275,30.55 -3.275,2.05 -4.475,2.05 ; -4.475,-31.75 4.475,-31.75 4.475,31.75 -3.475,31.75 -4.475,30.75 -4.475,-31.75
  text "'.Designator'" at 0.84,-4.047 h1
Top Courtyard:
  lines w0.254: -6.8,-27.69 -4.98,-27.69 -4.98,-32.25 4.98,-32.25 4.98,-27.69 6.8,-27.69 6.8,27.69 4.98,27.69 4.98,32.25 -4.98,32.25 -4.98,27.69 -6.8,27.69 -6.8,-27.69
Top Designator:
  text ".Designator" at -7.618,-0.508 h1.52